# Altium footprint library MLACHN_O.PCBLIB: 23 footprints (part 2 of 2)
Each footprint in its own frame and in the unit in brackets; x right, y up, seen from the top. Pads: shape width x height; smd on the part's side, far side on the other; paste and mask are expansions set on the pad; w line width, h text height; cw(c..) or ccw(c..) is an arc to the next point about the centre after c.
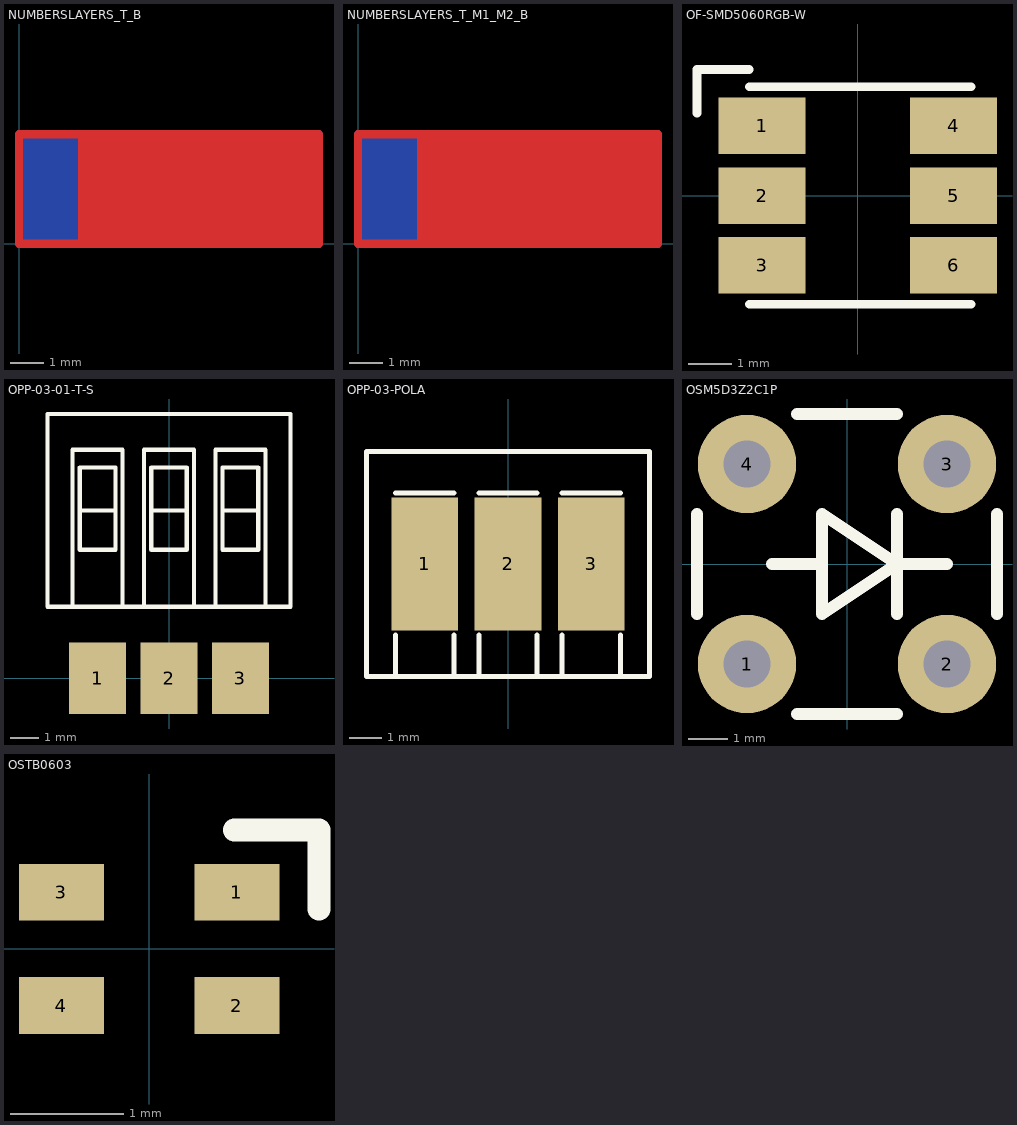
[diagram p1: the footprints below, top view; thin cyan lines are the x and y axes]

## NUMBERSLAYERS_T_B [mm]
TopLayer:
  lines w0.254: 1.905,0 1.905,3.302 ; 1.905,0.254 9.017,0.254 ; 1.905,0.508 9.017,0.508 ; 1.905,0.762 9.017,0.762 ; 1.905,1.016 9.017,1.016 ; 1.905,1.27 9.017,1.27 ; 1.905,1.524 9.017,1.524 ; 1.905,1.778 9.017,1.778 ; 1.905,2.032 9.017,2.032 ; 1.905,2.286 9.017,2.286 ; 1.905,2.54 9.017,2.54 ; 1.905,2.794 9.017,2.794 ; 1.905,3.048 9.017,3.048 ; 0,0 0,3.302 9.017,3.302 9.017,0 0,0
  text "1" at 0.762,0.762 h1.78
BottomLayer:
  lines w0.254: 0,0.254 6.35,0.254 ; 0,0.508 6.35,0.508 ; 0,0.762 6.35,0.762 ; 0,1.016 6.35,1.016 ; 0,1.27 6.35,1.27 ; 0,1.524 6.35,1.524 ; 0,1.778 6.35,1.778 ; 0,2.032 6.35,2.032 ; 0,2.286 6.35,2.286 ; 0,2.54 6.35,2.54 ; 0,2.794 6.35,2.794 ; 0,3.048 6.35,3.048 ; 6.35,0 6.35,3.302 ; 0,0 0,3.302 9.017,3.302 9.017,0 0,0
  text "2" at 8.3,0.75 h1.78

## NUMBERSLAYERS_T_M1_M2_B [mm]
TopLayer:
  lines w0.254: 1.905,0 1.905,3.302 ; 1.905,0.254 9.017,0.254 ; 1.905,0.508 9.017,0.508 ; 1.905,0.762 9.017,0.762 ; 1.905,1.016 9.017,1.016 ; 1.905,1.27 9.017,1.27 ; 1.905,1.524 9.017,1.524 ; 1.905,1.778 9.017,1.778 ; 1.905,2.032 9.017,2.032 ; 1.905,2.286 9.017,2.286 ; 1.905,2.54 9.017,2.54 ; 1.905,2.794 9.017,2.794 ; 1.905,3.048 9.017,3.048 ; 0,0 0,3.302 9.017,3.302 9.017,0 0,0
  text "1" at 0.762,0.762 h1.78
MidLayer1:
  lines w0.254: 0.254,0.127 0.254,3.302 ; 0.381,0 0.381,3.302 ; 0.635,0 0.635,3.302 ; 0.889,0 0.889,3.302 ; 1.143,0 1.143,3.302 ; 1.397,0 1.397,3.302 ; 1.651,0 1.651,3.302 ; 1.905,0 1.905,3.302 ; 3.937,0 3.937,3.302 ; 3.937,0.254 9.017,0.254 ; 3.937,0.508 9.017,0.508 ; 3.937,0.762 9.017,0.762 ; 3.937,1.016 9.017,1.016 ; 3.937,1.27 9.017,1.27 ; 3.937,1.524 9.017,1.524 ; 3.937,1.778 9.017,1.778 ; 3.937,2.032 9.017,2.032 ; 3.937,2.286 9.017,2.286 ; 3.937,2.54 9.017,2.54 ; 3.937,2.794 9.017,2.794 ; 3.937,3.048 9.017,3.048 ; 0,0 0,3.302 9.017,3.302 9.017,0 0,0
  text "2" at 2.286,0.762 h1.78
MidLayer2:
  lines w0.254: 0,0.254 4.064,0.254 ; 0,0.508 4.064,0.508 ; 0,0.762 4.064,0.762 ; 0,1.016 4.064,1.016 ; 0,1.27 4.064,1.27 ; 0,1.524 4.064,1.524 ; 0,1.778 4.064,1.778 ; 0,2.032 4.064,2.032 ; 0,2.286 4.064,2.286 ; 0,2.54 4.064,2.54 ; 0,2.794 4.064,2.794 ; 0,3.048 4.064,3.048 ; 4.064,0 4.064,3.302 ; 6.223,0 6.223,3.302 ; 6.35,0 6.35,3.302 ; 6.477,0 6.477,3.302 ; 6.604,0 6.604,3.302 ; 6.731,0 6.731,3.302 ; 6.858,0 6.858,3.302 ; 6.985,0 6.985,3.302 ; 7.112,0 7.112,3.302 ; 7.239,0 7.239,3.302 ; 7.366,0 7.366,3.302 ; 7.493,0 7.493,3.302 ; 7.747,0 7.747,3.302 ; 7.874,0 7.874,3.302 ; 8.001,0 8.001,3.302 ; 8.128,0 8.128,3.302 ; 8.255,0 8.255,3.302 ; 8.382,0 8.382,3.175 ; 8.509,0 8.509,3.302 ; 8.636,0 8.636,3.302 ; 8.89,0 8.89,3.302 ; 0,0 0,3.302 9.017,3.302 9.017,0 0,0
  text "3" at 4.572,0.762 h1.78
BottomLayer:
  lines w0.254: 0,0.254 6.35,0.254 ; 0,0.508 6.35,0.508 ; 0,0.762 6.35,0.762 ; 0,1.016 6.35,1.016 ; 0,1.27 6.35,1.27 ; 0,1.524 6.35,1.524 ; 0,1.778 6.35,1.778 ; 0,2.032 6.35,2.032 ; 0,2.286 6.35,2.286 ; 0,2.54 6.35,2.54 ; 0,2.794 6.35,2.794 ; 0,3.048 6.35,3.048 ; 6.35,0 6.35,3.302 ; 0,0 0,3.302 9.017,3.302 9.017,0 0,0
  text "4" at 6.985,0.762 h1.78

## OF-SMD5060RGB-W [mm]
pads (6):
  rect 2x1.3 smd: 1(-2.2,1.6) 2(-2.2,0) 3(-2.2,-1.6) 4(2.2,1.6) 5(2.2,0) 6(2.2,-1.6)
TopOverlay:
  lines w0.2: -3.7,1.9 -3.7,2.9 -2.5,2.9 ; -2.5,-2.5 2.6,-2.5 ; -2.5,2.5 2.6,2.5
3D body: height 1.7, standoff 0, extent 0.252,-1.2 1.248,-0.202
3D body: height 1.7, standoff 0, extent -1.298,-1.1 -0.302,-0.102
3D body: height 1.7, standoff 0, extent -0.5,0.4 0.496,1.398
3D body: height 0.8, standoff 0, extent 2.4,1.1 2.9,2.1
3D body: height 0.8, standoff 0, extent 2.4,-0.5 2.9,0.5
3D body: height 0.8, standoff 0, extent 2.4,-2.1 2.9,-1.1
3D body: height 0.8, standoff 0, extent -2.9,-2.1 -2.4,-1.1
3D body: height 0.8, standoff 0, extent -2.9,1.1 -2.4,2.1
3D body: height 0.8, standoff 0, extent -2.9,-0.5 -2.4,0.5
3D body: height 1.6, standoff 0, extent -2.5,-2.5 2.6,2.5
3D body: height 1.65, standoff 0, extent -1.643,-1.65 1.643,1.643

## OPP-03-01-T-S [mil]
pads (3):
  rect 80x100 smd: 1(-100,0) 2(0,0) 3(100,0)
TopOverlay:
  lines w6: -135,100 -135,320 -65,320 -65,100 ; -125,235 -75,235 ; -35,100 -35,320 35,320 35,100 ; -25,235 25,235 ; 65,100 65,320 135,320 135,100 ; 75,235 125,235 ; -170,100 -170,370 170,370 170,100 -170,100 ; -125,180 -75,180 -75,295 -125,295 -125,180 ; -25,180 25,180 25,295 -25,295 -25,180 ; 75,180 125,180 125,295 75,295 75,180

## OPP-03-POLA [mil]
pads (3):
  rect 80x160 smd: 1(-100,235) 2(0,235) 3(100,235)
TopOverlay:
  lines w6: -135,100 -135,150 ; -135,320 -65,320 ; -65,100 -65,150 ; -35,100 -35,150 ; -35,320 35,320 ; 35,100 35,150 ; 65,100 65,150 ; 65,320 135,320 ; 135,100 135,150 ; -170,100 -170,370 170,370 170,100 -170,100

## OSM5D3Z2C1P [mm]
pads (4):
  round 2.5 hole 1.2: 1(-2.54,-2.54) 2(2.54,-2.54) 3(2.54,2.54) 4(-2.54,2.54)
TopOverlay:
  lines w0.3: -3.81,-1.27 -3.81,1.27 ; -1.905,0 -0.635,0 ; -1.27,-3.81 1.27,-3.81 ; -1.27,3.81 1.27,3.81 ; 1.27,-1.27 1.27,1.27 ; 2.54,0 1.27,0 ; 3.81,-1.27 3.81,1.27 ; 1.27,0 -0.635,1.27 -0.635,-1.27 1.27,0
3D body: height 4, standoff 0, extent -2.94,2.14 -2.14,2.94
3D body: height 4, standoff 0, extent 2.14,2.14 2.94,2.94
3D body: height 4, standoff 0, extent 2.14,-2.94 2.94,-2.14
3D body: height 4, standoff 0, extent -2.94,-2.94 -2.14,-2.14
3D body: height 7.45, standoff 2.45, extent -2.487,-2.439 2.487,2.54
3D body: height 4.95, standoff 2, extent -3.81,-3.81 3.81,3.81

## OSTB0603 [mm]
pads (4):
  rect 0.75x0.5 smd: 1(0.775,0.5) 2(0.775,-0.5) 3(-0.775,0.5) 4(-0.775,-0.5)
TopOverlay:
  lines w0.2: 0.75,1.05 1.5,1.05 1.5,0.35
3D body: height 0.5, standoff 0.2, extent -0.55,-0.75 0.55,0.75
3D body: height 0.2, standoff 0, extent -0.8,-0.75 0.8,0.75